# Altium footprint library 0402.PcbLib: 1 footprints
Each footprint in its own frame and in the unit in brackets; x right, y up, seen from the top. Pads: shape width x height; smd on the part's side, far side on the other; paste and mask are expansions set on the pad; w line width, h text height; cw(c..) or ccw(c..) is an arc to the next point about the centre after c.
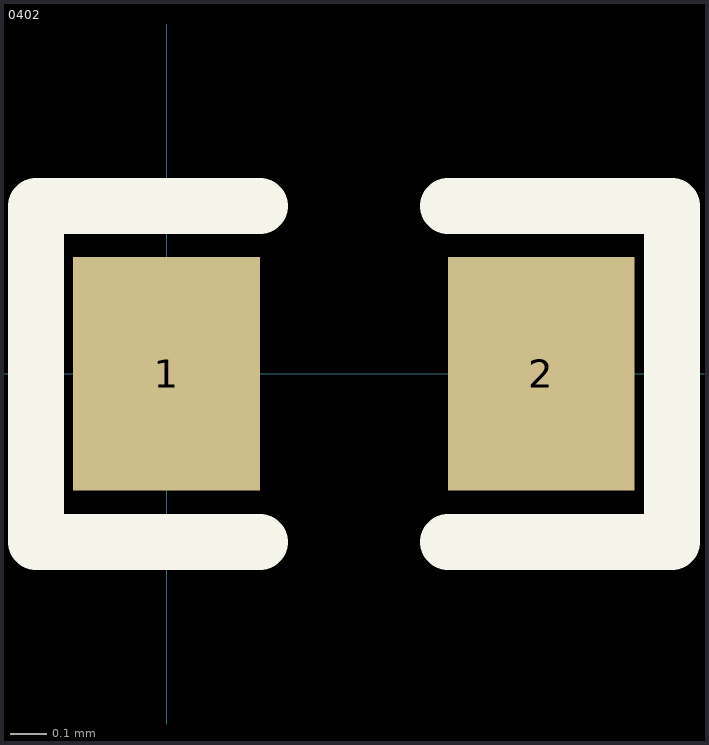
[diagram p0: the footprint, top view; thin cyan lines are the x and y axes]

## 0402 [mil]
height 15
pads (2):
  rect 20x25 smd: 1(0,0) 2(40.11,0)
TopOverlay:
  lines w6: 10,-18.01 -14,-18.01 -14,17.99 10,17.99 ; 30.12,-18.01 54.12,-18.01 54.12,17.99 30.12,17.99
Mechanical4:
  text "0.0311" at 2,-0.01 h1
3D body: height 7.95, standoff 0, extent 0.35,-11.74 39.72,11.88